# Altium footprint library Test_Point_TH.PcbLib: 1 footprints
Each footprint in its own frame and in the unit in brackets; x right, y up, seen from the top. Pads: shape width x height; smd on the part's side, far side on the other; paste and mask are expansions set on the pad; w line width, h text height; cw(c..) or ccw(c..) is an arc to the next point about the centre after c.
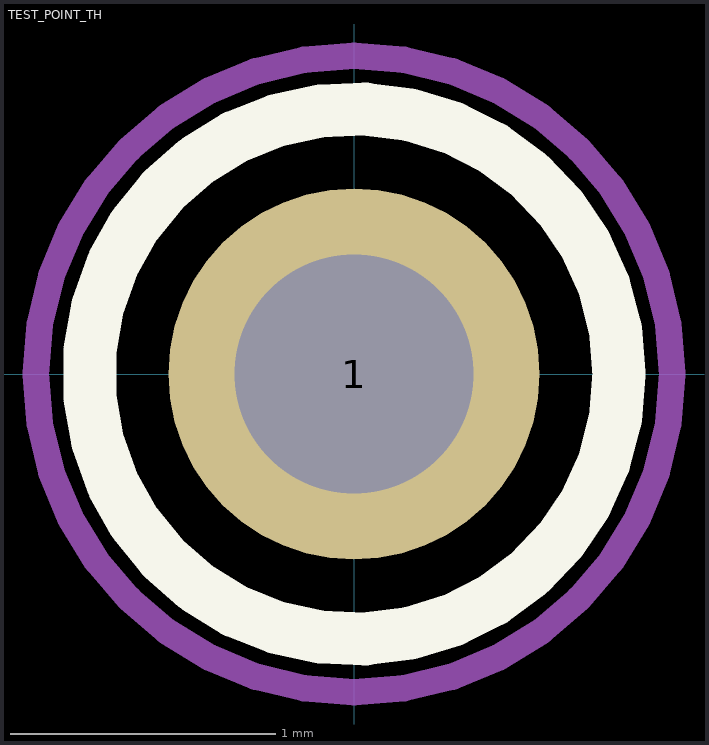
[diagram p0: the footprint, top view; thin cyan lines are the x and y axes]

## TEST_POINT_TH [mm]
pads (1):
  round 1.4 hole 0.9: 1(0,0)
Top Overlay:
  circle w0.2: c0,0 r1
Top Courtyard:
  circle w0.1: c0,0 r1.2
3D body: height 0.5, standoff -0.5, extent -0.5,-0.5 0.5,0.5